# Altium footprint library RTTester.PcbLib: 37 footprints (part 2 of 3)
Each footprint in its own frame and in the unit in brackets; x right, y up, seen from the top. Pads: shape width x height; smd on the part's side, far side on the other; paste and mask are expansions set on the pad; w line width, h text height; cw(c..) or ccw(c..) is an arc to the next point about the centre after c.
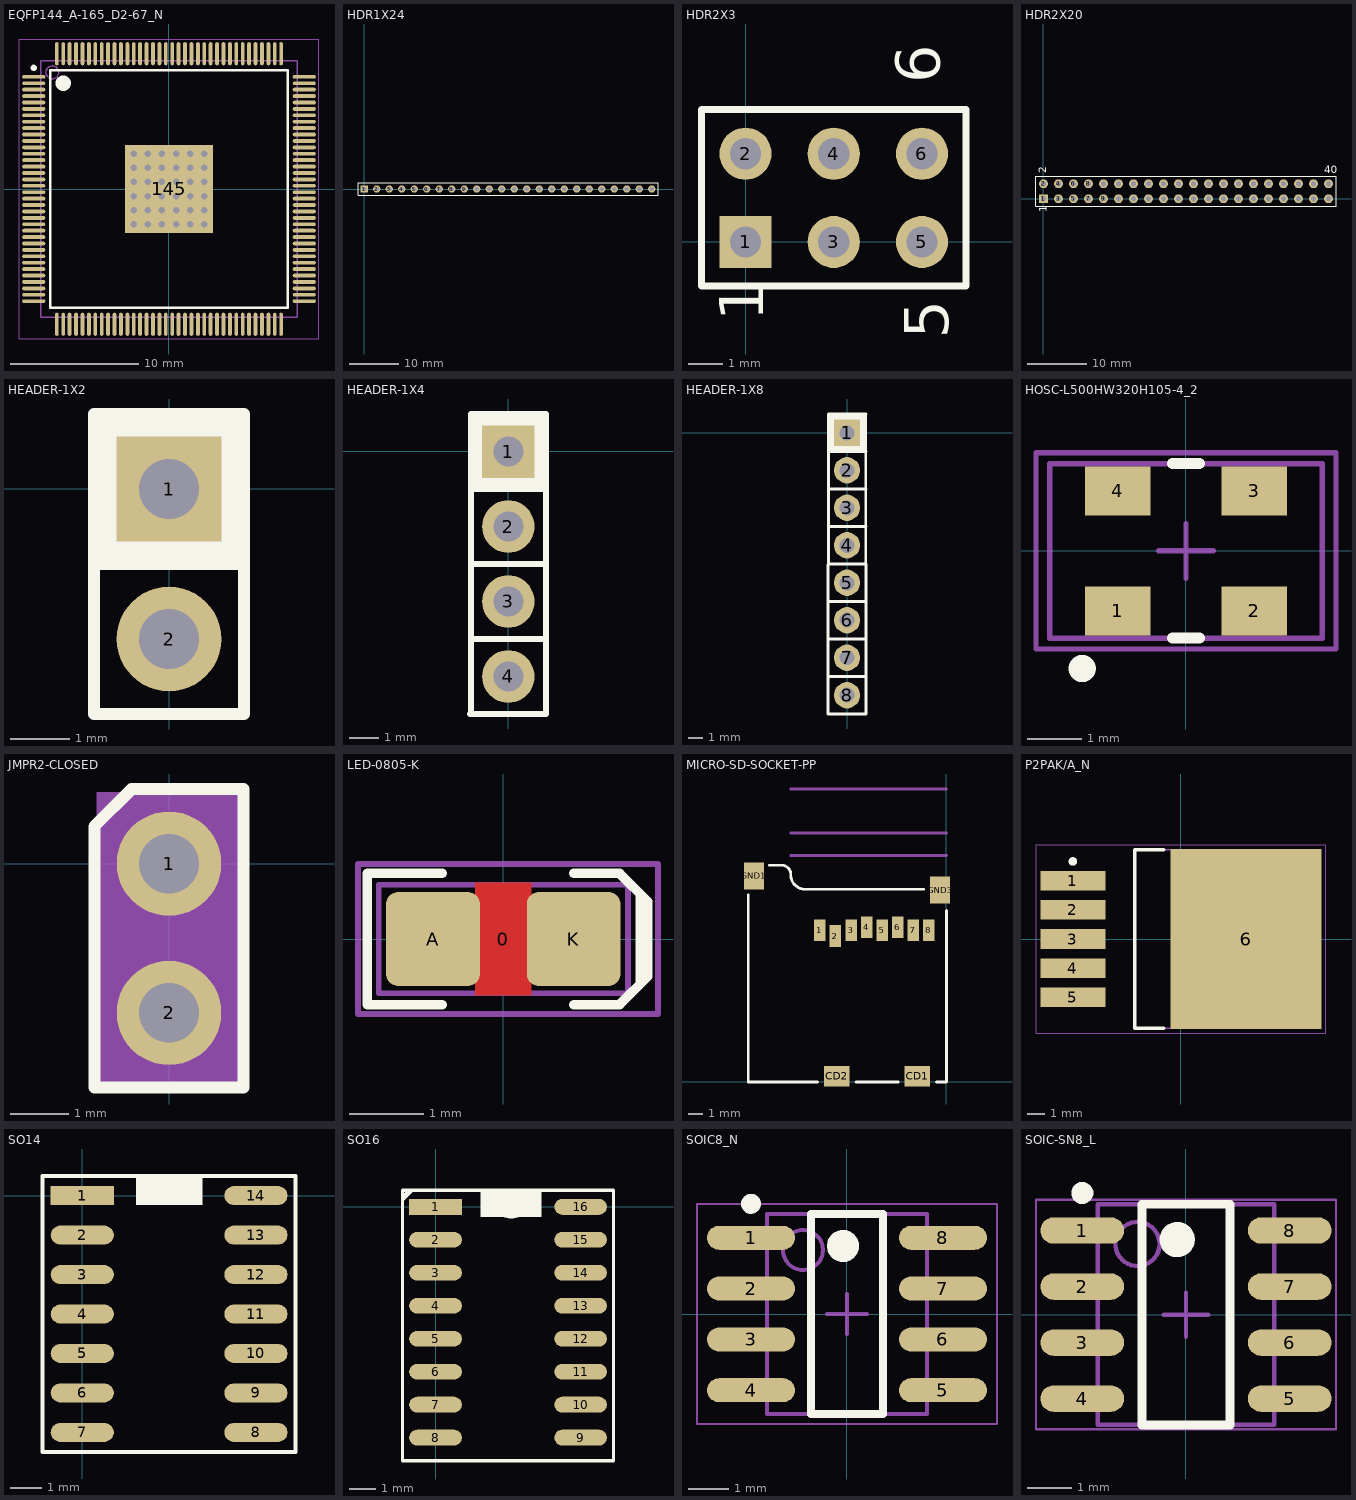
[diagram p1: the footprints below, top view; thin cyan lines are the x and y axes]

## EQFP144_A-165_D2-67_N [mm] "Shrink QFP, 144-Leads, Body 20x20mm, Pitch 0.5mm, Thermal Pad 6.85x6.85mm, IPC Medium Density"
height 1.65
pads (145):
  oval 1.8x0.3 smd: 1(-10.55,8.75) 2(-10.55,8.25) 3(-10.55,7.75) 4(-10.55,7.25) 5(-10.55,6.75) 6(-10.55,6.25) 7(-10.55,5.75) 8(-10.55,5.25) 9(-10.55,4.75) 10(-10.55,4.25) 11(-10.55,3.75) 12(-10.55,3.25) 13(-10.55,2.75) 14(-10.55,2.25) 15(-10.55,1.75) 16(-10.55,1.25) 17(-10.55,0.75) 18(-10.55,0.25) 19(-10.55,-0.25) 20(-10.55,-0.75) 21(-10.55,-1.25) 22(-10.55,-1.75) 23(-10.55,-2.25) 24(-10.55,-2.75) 25(-10.55,-3.25) 26(-10.55,-3.75) 27(-10.55,-4.25) 28(-10.55,-4.75) 29(-10.55,-5.25) 30(-10.55,-5.75) 31(-10.55,-6.25) 32(-10.55,-6.75) 33(-10.55,-7.25) 34(-10.55,-7.75) 35(-10.55,-8.25) 36(-10.55,-8.75) 73(10.55,-8.75) 74(10.55,-8.25) 75(10.55,-7.75) 76(10.55,-7.25) 77(10.55,-6.75) 78(10.55,-6.25) 79(10.55,-5.75) 80(10.55,-5.25) 81(10.55,-4.75) 82(10.55,-4.25) 83(10.55,-3.75) 84(10.55,-3.25) 85(10.55,-2.75) 86(10.55,-2.25) 87(10.55,-1.75) 88(10.55,-1.25) 89(10.55,-0.75) 90(10.55,-0.25) 91(10.55,0.25) 92(10.55,0.75) 93(10.55,1.25) 94(10.55,1.75) 95(10.55,2.25) 96(10.55,2.75) 97(10.55,3.25) 98(10.55,3.75) 99(10.55,4.25) 100(10.55,4.75) 101(10.55,5.25) 102(10.55,5.75) 103(10.55,6.25) 104(10.55,6.75) 105(10.55,7.25) 106(10.55,7.75) 107(10.55,8.25) 108(10.55,8.75)
  oval 0.3x1.8 smd: 37(-8.75,-10.55) 38(-8.25,-10.55) 39(-7.75,-10.55) 40(-7.25,-10.55) 41(-6.75,-10.55) 42(-6.25,-10.55) 43(-5.75,-10.55) 44(-5.25,-10.55) 45(-4.75,-10.55) 46(-4.25,-10.55) 47(-3.75,-10.55) 48(-3.25,-10.55) 49(-2.75,-10.55) 50(-2.25,-10.55) 51(-1.75,-10.55) 52(-1.25,-10.55) 53(-0.75,-10.55) 54(-0.25,-10.55) 55(0.25,-10.55) 56(0.75,-10.55) 57(1.25,-10.55) 58(1.75,-10.55) 59(2.25,-10.55) 60(2.75,-10.55) 61(3.25,-10.55) 62(3.75,-10.55) 63(4.25,-10.55) 64(4.75,-10.55) 65(5.25,-10.55) 66(5.75,-10.55) 67(6.25,-10.55) 68(6.75,-10.55) 69(7.25,-10.55) 70(7.75,-10.55) 71(8.25,-10.55) 72(8.75,-10.55) 109(8.75,10.55) 110(8.25,10.55) 111(7.75,10.55) 112(7.25,10.55) 113(6.75,10.55) 114(6.25,10.55) 115(5.75,10.55) 116(5.25,10.55) 117(4.75,10.55) 118(4.25,10.55) 119(3.75,10.55) 120(3.25,10.55) 121(2.75,10.55) 122(2.25,10.55) 123(1.75,10.55) 124(1.25,10.55) 125(0.75,10.55) 126(0.25,10.55) 127(-0.25,10.55) 128(-0.75,10.55) 129(-1.25,10.55) 130(-1.75,10.55) 131(-2.25,10.55) 132(-2.75,10.55) 133(-3.25,10.55) 134(-3.75,10.55) 135(-4.25,10.55) 136(-4.75,10.55) 137(-5.25,10.55) 138(-5.75,10.55) 139(-6.25,10.55) 140(-6.75,10.55) 141(-7.25,10.55) 142(-7.75,10.55) 143(-8.25,10.55) 144(-8.75,10.55)
  rect 6.85x6.85 smd: 145(0,0)
via 2.75,-2.75 diameter 0.8 hole 0.5
via 1.65,-2.75 diameter 0.8 hole 0.5
via 0.55,-2.75 diameter 0.8 hole 0.5
via -0.55,-2.75 diameter 0.8 hole 0.5
via -1.65,-2.75 diameter 0.8 hole 0.5
via -2.75,-2.75 diameter 0.8 hole 0.5
via 2.75,-1.65 diameter 0.8 hole 0.5
via 1.65,-1.65 diameter 0.8 hole 0.5
via 0.55,-1.65 diameter 0.8 hole 0.5
via -0.55,-1.65 diameter 0.8 hole 0.5
via -1.65,-1.65 diameter 0.8 hole 0.5
via -2.75,-1.65 diameter 0.8 hole 0.5
via 2.75,-0.55 diameter 0.8 hole 0.5
via 1.65,-0.55 diameter 0.8 hole 0.5
via 0.55,-0.55 diameter 0.8 hole 0.5
via -0.55,-0.55 diameter 0.8 hole 0.5
via -1.65,-0.55 diameter 0.8 hole 0.5
via -2.75,-0.55 diameter 0.8 hole 0.5
via 2.75,0.55 diameter 0.8 hole 0.5
via 1.65,0.55 diameter 0.8 hole 0.5
via 0.55,0.55 diameter 0.8 hole 0.5
via -0.55,0.55 diameter 0.8 hole 0.5
via -1.65,0.55 diameter 0.8 hole 0.5
via -2.75,0.55 diameter 0.8 hole 0.5
via 2.75,1.65 diameter 0.8 hole 0.5
via 1.65,1.65 diameter 0.8 hole 0.5
via 0.55,1.65 diameter 0.8 hole 0.5
via -0.55,1.65 diameter 0.8 hole 0.5
via -1.65,1.65 diameter 0.8 hole 0.5
via -2.75,1.65 diameter 0.8 hole 0.5
via 2.75,2.75 diameter 0.8 hole 0.5
via 1.65,2.75 diameter 0.8 hole 0.5
via 0.55,2.75 diameter 0.8 hole 0.5
via -0.55,2.75 diameter 0.8 hole 0.5
via -1.65,2.75 diameter 0.8 hole 0.5
via -2.75,2.75 diameter 0.8 hole 0.5
Top Overlay:
  circle w0.25: c-10.55,9.45 r0.125
  circle w0.6: c-8.25,8.25 r0.3
  lines w0.2: -9.25,-9.25 -9.25,9.25 9.25,9.25 9.25,-9.25 -9.25,-9.25
Mechanical 13:
  circle w0.1: c-9.1,9.1 r0.5
  lines w0.1: -10,-10 -10,10 10,10 10,-10 -10,-10
Mechanical 15:
  lines w0.05: -11.7,-11.7 -11.7,11.7 11.7,11.7 11.7,-11.7 -11.7,-11.7
  lines w0.1: -0.5,0 0.5,0 ; 0,-0.5 0,0.5
3D body: height 1.65, standoff 0.05, extent -10,-10 10,10

## HDR1X24 [mm] "Connector; Header; 24 Position"
pads (24):
  rect 1.5x1.5 hole 0.9: 1(0,0)
  round 1.5 hole 0.9: 2(2.54,0) 3(5.08,0) 4(7.62,0) 5(10.16,0) 6(12.7,0) 7(15.24,0) 8(17.78,0) 9(20.32,0) 10(22.86,0) 11(25.4,0) 12(27.94,0) 13(30.48,0) 14(33.02,0) 15(35.56,0) 16(38.1,0) 17(40.64,0) 18(43.18,0) 19(45.72,0) 20(48.26,0) 21(50.8,0) 22(53.34,0) 23(55.88,0) 24(58.42,0)
Top Overlay:
  lines w0.2: -1.27,-1.27 59.69,-1.27 59.69,1.27 0.635,1.27 -1.27,1.27 -1.27,-1.27
3D body: height 8.54, standoff -3, extent -1.27,-1.295 59.69,1.245

## HDR2X3 [mm] "Connector; Header; 3x2 Position"
pads (6):
  rect 1.5x1.5 hole 0.9: 1(0,0)
  round 1.5 hole 0.9: 2(0,2.54) 3(2.54,0) 4(2.54,2.54) 5(5.08,0) 6(5.08,2.54)
Top Overlay:
  lines w0.2: 1.482,-1.27 6.35,-1.27 ; 6.35,-1.27 6.35,3.81 -1.27,3.81 -1.27,-1.27 6.35,-1.27
  text "6" at 5.588,4.572 h1.27
  text "5" at 5.842,-2.794 h1.27
  text "1" at 0.508,-2.286 h1.27
3D body: height 8.54, standoff -3, extent -1.27,-1.27 6.35,3.81

## HDR2X20 [mm] "Connector; Header; 20x2 Position"
height 1.2
pads (40):
  rect 1.5x1.5 hole 0.9: 1(0,0)
  round 1.5 hole 0.9: 2(0,2.54) 3(2.54,0) 4(2.54,2.54) 5(5.08,0) 6(5.08,2.54) 7(7.62,0) 8(7.62,2.54) 9(10.16,0) 10(10.16,2.54) 11(12.7,0) 12(12.7,2.54) 13(15.24,0) 14(15.24,2.54) 15(17.78,0) 16(17.78,2.54) 17(20.32,0) 18(20.32,2.54) 19(22.86,0) 20(22.86,2.54) 21(25.4,0) 22(25.4,2.54) 23(27.94,0) 24(27.94,2.54) 25(30.48,0) 26(30.48,2.54) 27(33.02,0) 28(33.02,2.54) 29(35.56,0) 30(35.56,2.54) 31(38.1,0) 32(38.1,2.54) 33(40.64,0) 34(40.64,2.54) 35(43.18,0) 36(43.18,2.54) 37(45.72,0) 38(45.72,2.54) 39(48.26,0) 40(48.26,2.54)
Top Overlay:
  lines w0.2: -1.27,-1.27 -1.27,3.81 49.53,3.81 49.53,-1.27 -1.27,-1.27
  text "40" at 47.498,4.318 h1.27
  text "2" at 0.432,4.293 h1.27
  text "1" at 0.559,-2.286 h1.27
3D body: height 3.05, standoff -8.64, extent -1.245,-1.257 49.53,3.797

## HEADER-1X2 [mil]
height 47.24
pads (2):
  rect 70x70 hole 40: 1(0,0)
  round 70 hole 40: 2(0,-100)
Top Overlay:
  rectangle: -50,-49.62 50,50
  lines w8: -50,-50 50,-50 ; -50,-150 50,-150 50,50 -50,50 -50,-150
3D body: height 101, standoff 100, extent -35,-35 35.5,35
3D body: height 470, standoff -120, extent -15,-15 15,15
3D body: height 470, standoff -120, extent -15,-115 15,-85
3D body: height 100, standoff 0, extent -50,-150 50,50

## HEADER-1X4 [mil]
height 47.24
pads (4):
  rect 70x70 hole 40: 1(0,0)
  round 70 hole 40: 2(0,-100) 3(0,-200) 4(0,-300)
Top Overlay:
  rectangle: -50,-49.62 50,50
  lines w8: -51,-350 49,-350 ; -50,-250 50,-250 ; -50,-150 50,-150 ; -50,-50 50,-50 ; -50,-350 50,-350 ; -50,-350 50,-350 ; -50,-350 -50,50 50,50 50,-350
3D body: height 101, standoff 100, extent -35,-35 35.5,35
3D body: height 470, standoff -120, extent -15,-315 15,-285
3D body: height 470, standoff -120, extent -15,-15 15,15
3D body: height 470, standoff -120, extent -15,-115 15,-85
3D body: height 100, standoff 0, extent -50,-350 50,50
3D body: height 470, standoff -120, extent -15,-215 15,-185

## HEADER-1X8 [mil]
height 47.24
pads (8):
  rect 70x70 hole 40: 1(0,0)
  round 70 hole 40: 2(0,-100) 3(0,-200) 4(0,-300) 5(0,-400) 6(0,-500) 7(0,-600) 8(0,-700)
Top Overlay:
  rectangle: -50,-49.62 50,50
  lines w8: -50,-250 50,-250 ; -50,-150 50,-150 ; -50,-50 50,-50 ; -50,-750 50,-750 ; -50,-750 -50,50 50,50 50,-750 ; -50,-750 50,-750 ; -50,-750 50,-750 ; -50,-650 50,-650 -50,-650 ; -50,-550 50,-550 -50,-550 ; -50,-450 50,-450 -50,-450 ; -50,-350 50,-350 -50,-350
3D body: height 470, standoff -120, extent -15,-215 15,-185
3D body: height 100, standoff 0, extent -50,-750 50,50
3D body: height 470, standoff -120, extent -15,-115 15,-85
3D body: height 470, standoff -120, extent -15,-15 15,15
3D body: height 470, standoff -120, extent -15,-315 15,-285
3D body: height 470, standoff -120, extent -15,-415 15,-385
3D body: height 470, standoff -120, extent -15,-515 15,-485
3D body: height 470, standoff -120, extent -15,-615 15,-585
3D body: height 470, standoff -120, extent -15,-715 15,-685
3D body: height 101, standoff 100, extent -35,-35 35.5,35

## HOSC-L500HW320H105-4_2 [mm]
height 1.2
pads (4):
  rect 1.2x0.9 smd: 1(-1.25,-1.1) 2(1.25,-1.1) 3(1.25,1.1) 4(-1.25,1.1)
Top Overlay:
  circle w0.25: c-1.903,-2.159 r0.125
  lines w0.2: -0.25,-1.6 0.25,-1.6 ; -0.25,1.6 0.25,1.6
Mechanical 13:
  lines w0.1: -2.5,-1.6 -2.5,1.6 2.5,1.6 2.5,-1.6 -2.5,-1.6
Mechanical 15:
  lines w0.1: -0.5,0 0.5,0 ; 0,-0.5 0,0.5 ; -2.75,-1.8 2.75,-1.8 2.75,1.8 -2.75,1.8 -2.75,-1.8
3D body: height 1.05, standoff 0, extent -2.5,-1.6 2.5,1.6

## JMPR2-CLOSED [mil]
height 47.24
pads (2):
  round 70 hole 40: 1(0,0) 2(0,-100)
Top Overlay:
  lines w8: -50,-150 -50,25 -25,50 50,50 50,-150 -50,-150
Mechanical 2:
  rectangle: -48,-151 49.5,48
Mechanical 3:
  rectangle: -48.5,-148 48.5,48
3D body: height 280, standoff 250, extent -48,-152 48,48
3D body: height 250, standoff 220, extent -41,-144 40,39.5
3D body: height 220, standoff 100, extent -48,-152 48,48
3D body: height 100, standoff 0, extent -50,-150.43 50,50
3D body: height 300, standoff -120, extent -15,-15.25 15,14.75
3D body: height 300, standoff -120, extent -15,-115.25 15,-85.25

## LED-0805-K [mil]
height 31.5
pads (3):
  round 20 on Mech15: 0(0,0)
  rrect25% 50x50 smd: A(-37.5,0) K(37.5,0)
Top Layer:
  pour cut-out: -15,30 15,30 15,-30 -15,-30
Top Overlay:
  lines w5: -32.5,-35 -72.5,-35 -72.5,35 -32.5,35 ; 37.5,-35 62,-35 77,-20 77,20 62,35 37.5,35 ; 73,-24 73,24
Mechanical 13:
  lines w3: -66.5,-29 -66.5,29 66.5,29 66.5,-29 -66.5,-29
Mechanical 15:
  lines w3: -77.5,-40 -77.5,40 82.5,40 82.5,-40 -77.5,-40
3D body: height 3.94, standoff 0, extent -11.81,-15.75 11.81,15.75
3D body: height 3.94, standoff 0, extent -39.37,-24.61 39.37,24.61
3D body: height 11.81, standoff 3.94, extent -39.37,-24.61 39.37,24.61
3D body: height 31.5, standoff 11.81, extent -28.65,-24.6 26.49,24.61

## MICRO-SD-SOCKET-PP [mil]
height 47.24
pads (12):
  rect 32x60 smd: 1(-351.97,422) 2(-308.66,406) 3(-265.35,422) 4(-222.05,430) 5(-178.74,422) 6(-135.43,430) 7(-92.13,422) 8(-48.82,422)
  rect 71x56 smd: CD1(-80.71,16) CD2(-305.12,16)
  rect 56x75 smd: GND1(-535.43,573) GND3(-17.72,534)
Top Overlay:
  lines w8: -551.18,520 -551.18,0 -358.27,0 ; -492.13,603 -460.63,603 cw(c-458.85,577.19) -433.07,575 ccw(c-392.91,576.17) -393.7,536 -62.99,536 ; -251.97,0 -133.86,0 ; -27.56,0 0,0 0,477
Mechanical 2:
  text ">Name" at -350,250 h49.6
Mechanical 4:
  text ">Value" at -350,200 h49.6
Mechanical 16:
  lines w8: -433.07,630 0,630 ; -433.07,693 0,693 ; -433.07,815 0,815
3D body: height 70.43, standoff -0.43, extent -548.31,-0.12 -5,610.12

## P2PAK/A_N [mm] "D2-PAK, 6-Leads, Body 9.2x10.2mm, Pitch 1.7mm, Lead Span 15.4mm, IPC Medium Density"
height 4.8
pads (6):
  rect 3.8x1.15 smd: 1(-6.3,3.4) 2(-6.3,1.7) 3(-6.3,0) 4(-6.3,-1.7) 5(-6.3,-3.4)
  rect 8.8x10.5 smd: 6(3.8,0)
Top Overlay:
  circle w0.25: c-6.3,4.525 r0.125
  lines w0.2: -1,-5.2 -2.7,-5.2 -2.7,5.2 -1,5.2
Mechanical 13:
  lines w0.1: -2.7,-5.2 6.65,-5.2 6.65,5.2 -2.7,5.2 -2.7,-5.2
Mechanical 15:
  lines w0.05: -8.45,-5.5 8.45,-5.5 8.45,5.5 -8.45,5.5 -8.45,-5.5
  lines w0.1: -0.5,0 0.5,0 ; 0,-0.5 0,0.5
3D body: height 4.8, standoff 0.03, extent -2.7,-5.2 6.65,5.2

## SO14 [mil]
height 47.24
pads (14):
  rect 80x24 smd: 1(0,0)
  oval 80x24 smd: 2(0,-50) 3(0,-100) 4(0,-150) 5(0,-200) 6(0,-250) 7(0,-300) 8(220,-300) 9(220,-250) 10(220,-200) 11(220,-150) 12(220,-100) 13(220,-50) 14(220,0)
Top Overlay:
  rectangle: 68,-12 152,26
  lines w5: -50.12,-325.02 -50.12,24.98 269.88,24.98 269.88,-325.02 -50.12,-325.02
3D body: height 61, standoff 60, extent 68,-12 152,22
3D body: height 61, standoff 60, extent 36,-9 55.92,10.96
3D body: height 20, standoff 0, extent 213,-207 240,-192
3D body: height 35, standoff 15, extent 194,-207 226.5,-192
3D body: height 20, standoff 0, extent 213,-257 240,-242
3D body: height 35, standoff 15, extent 194,-257 226.5,-242
3D body: height 20, standoff 0, extent 213,-307 240,-292
3D body: height 35, standoff 15, extent 194,-307 226.5,-292
3D body: height 20, standoff 0, extent -20,-308 7,-293
3D body: height 35, standoff 15, extent -6.5,-308 26,-293
3D body: height 20, standoff 0, extent -20,-258 7,-243
3D body: height 35, standoff 15, extent -6.5,-258 26,-243
3D body: height 35, standoff 15, extent -6.5,-208 26,-193
3D body: height 20, standoff 0, extent -20,-208 7,-193
3D body: height 20, standoff 0, extent 213,-7 240,8
3D body: height 35, standoff 15, extent 194,-7 226.5,8
3D body: height 20, standoff 0, extent 213,-57 240,-42
3D body: height 35, standoff 15, extent 194,-57 226.5,-42
3D body: height 20, standoff 0, extent 213,-107 240,-92
3D body: height 35, standoff 15, extent 194,-107 226.5,-92
3D body: height 20, standoff 0, extent 213,-157 240,-142
3D body: height 35, standoff 15, extent 194,-157 226.5,-142
3D body: height 20, standoff 0, extent -20,-158 7,-143
3D body: height 35, standoff 15, extent -6.5,-158 26,-143
3D body: height 20, standoff 0, extent -20,-108 7,-93
3D body: height 35, standoff 15, extent -6.5,-108 26,-93
3D body: height 20, standoff 0, extent -20,-58 7,-43
3D body: height 35, standoff 15, extent -6.5,-58 26,-43
3D body: height 35, standoff 15, extent -6.5,-8 26,7
3D body: height 20, standoff 0, extent -20,-8 7,7
3D body: height 60, standoff 10, extent 25,-325 195,25

## SO16 [mil]
height 13.78
pads (16):
  rect 80x24 smd: 1(0,0)
  oval 80x24 smd: 2(0,-50) 3(0,-100) 4(0,-150) 5(0,-200) 6(0,-250) 7(0,-300) 8(0,-350) 9(220,-350) 10(220,-300) 11(220,-250) 12(220,-200) 13(220,-150) 14(220,-100) 15(220,-50) 16(220,0)
Top Overlay:
  rectangle: 67.91,-15.75 160.43,24.98
  lines w5: -35.12,24.98 -50.12,9.98 -50.12,14.98 -40.12,24.98 -50.12,24.98 ; 74.88,24.98 ccw(c114.88,24.98) 154.88,24.98 ; -50.12,24.98 269.88,24.98 269.88,-385.02 -50.12,-385.02 -50.12,24.98
3D body: height 60, standoff 10, extent 25,-385 195,25
3D body: height 20, standoff 0, extent -20,-8 7,7
3D body: height 35, standoff 15, extent -6.5,-8 26,7
3D body: height 35, standoff 15, extent -6.5,-58 26,-43
3D body: height 20, standoff 0, extent -20,-58 7,-43
3D body: height 35, standoff 15, extent -6.5,-108 26,-93
3D body: height 20, standoff 0, extent -20,-108 7,-93
3D body: height 35, standoff 15, extent -6.5,-158 26,-143
3D body: height 20, standoff 0, extent -20,-158 7,-143
3D body: height 35, standoff 15, extent 194,-157 226.5,-142
3D body: height 20, standoff 0, extent 213,-157 240,-142
3D body: height 35, standoff 15, extent 194,-107 226.5,-92
3D body: height 20, standoff 0, extent 213,-107 240,-92
3D body: height 35, standoff 15, extent 194,-57 226.5,-42
3D body: height 20, standoff 0, extent 213,-57 240,-42
3D body: height 35, standoff 15, extent 194,-7 226.5,8
3D body: height 20, standoff 0, extent 213,-7 240,8
3D body: height 20, standoff 0, extent -20,-208 7,-193
3D body: height 35, standoff 15, extent -6.5,-208 26,-193
3D body: height 35, standoff 15, extent -6.5,-258 26,-243
3D body: height 20, standoff 0, extent -20,-258 7,-243
3D body: height 35, standoff 15, extent -6.5,-308 26,-293
3D body: height 20, standoff 0, extent -20,-308 7,-293
3D body: height 35, standoff 15, extent 194,-307 226.5,-292
3D body: height 20, standoff 0, extent 213,-307 240,-292
3D body: height 35, standoff 15, extent 194,-257 226.5,-242
3D body: height 20, standoff 0, extent 213,-257 240,-242
3D body: height 35, standoff 15, extent 194,-207 226.5,-192
3D body: height 20, standoff 0, extent 213,-207 240,-192
3D body: height 61, standoff 60, extent 36,-9 55.92,10.96
3D body: height 61, standoff 60, extent 68,-12 152,22
3D body: height 20, standoff 0, extent 213,-357 240,-342
3D body: height 35, standoff 15, extent 194,-357 226.5,-342
3D body: height 20, standoff 0, extent -20,-358 7,-343
3D body: height 35, standoff 15, extent -6.5,-358 26,-343

## SOIC8_N [mm] "SOIC, 8-Leads, Body 4.9x3.9mm, Pitch 1.27mm, IPC Medium Density"
height 1.75
pads (8):
  oval 2.2x0.6 smd: 1(-2.4,1.905) 2(-2.4,0.635) 3(-2.4,-0.635) 4(-2.4,-1.905) 5(2.4,-1.905) 6(2.4,-0.635) 7(2.4,0.635) 8(2.4,1.905)
Top Overlay:
  circle w0.4: c-0.1,1.7 r0.2
  circle w0.25: c-2.4,2.755 r0.125
  lines w0.2: -0.9,-2.5 0.9,-2.5 0.9,2.5 -0.9,2.5 -0.9,-2.5
Mechanical 13:
  circle w0.1: c-1.1,1.6 r0.5
  lines w0.1: -2,-2.5 2,-2.5 2,2.5 -2,2.5 -2,-2.5
Mechanical 15:
  lines w0.05: -3.75,-2.75 3.75,-2.75 3.75,2.75 -3.75,2.75 -3.75,-2.75
  lines w0.1: -0.5,0 0.5,0 ; 0,-0.5 0,0.5
3D body: height 1.75, standoff 0.1, extent -2,-2.5 2,2.5

## SOIC-SN8_L [mm] "SOIC, 8-Leads, Body 4.9x3.8mm, Pitch 1.27mm, IPC High Density"
height 1.75
pads (8):
  oval 1.9x0.6 smd: 1(-2.35,1.905) 2(-2.35,0.635) 3(-2.35,-0.635) 4(-2.35,-1.905) 5(2.35,-1.905) 6(2.35,-0.635) 7(2.35,0.635) 8(2.35,1.905)
Top Overlay:
  circle w0.25: c-2.35,2.755 r0.125
  circle w0.4: c-0.2,1.7 r0.2
  lines w0.2: -1,-2.5 -1,2.5 1,2.5 1,-2.5 -1,-2.5
Mechanical 13:
  circle w0.1: c-1.1,1.6 r0.5
  lines w0.1: -2,-2.5 -2,2.5 2,2.5 2,-2.5 -2,-2.5
Mechanical 15:
  lines w0.05: -3.4,-2.6 -3.4,2.6 3.4,2.6 3.4,-2.6 -3.4,-2.6
  lines w0.1: -0.5,0 0.5,0 ; 0,-0.5 0,0.5
3D body: height 1.75, standoff 0.1, extent -2,-2.5 2,2.5